# Altium schematic symbol library Resistors.SchLib: 91 symbols
Pins are listed as number, name and electrical type; pins without a type are passive.

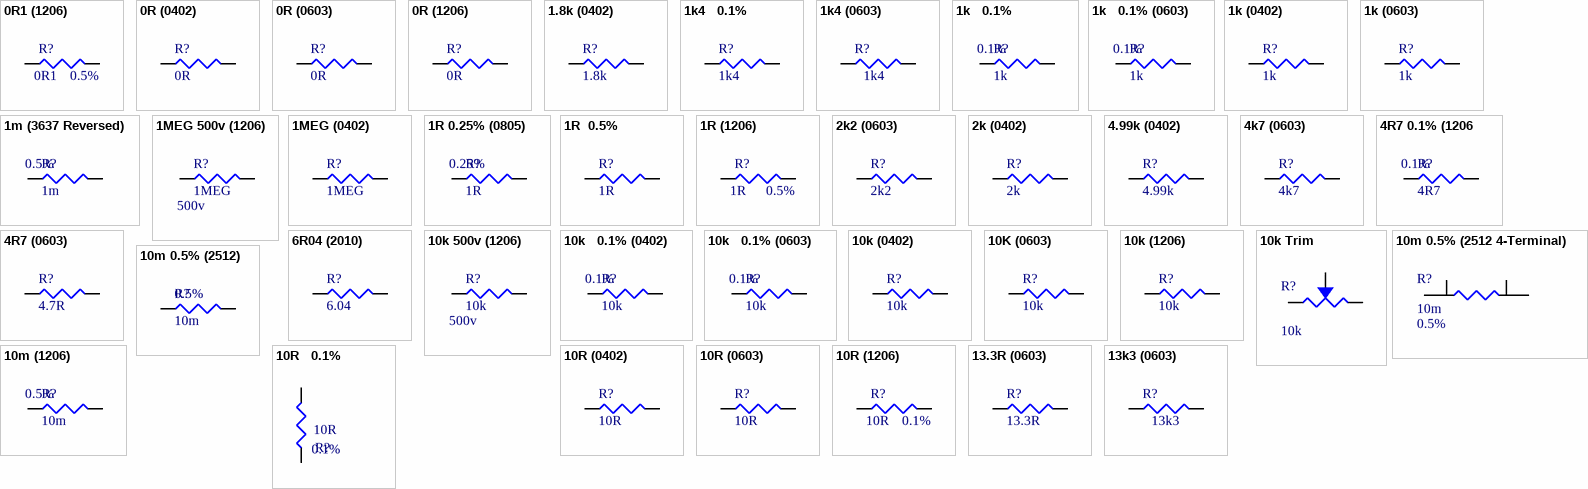
[diagram p0: symbols 0R1 (1206) to 13k3 (0603)]

## 0R1 (1206)
designator R?, comment Tolerance: 0.5%  (hidden comment: 0R1)
100mR Current Sense Resistor; POWER: 0.25w; MFG_PN: WSL1206R1000DEA; MFG: Vishay; Load: NL; Value: 0R1
footprint RES1206R (resistor 1206 reflow soldering)
pins: 1, 2
1 alternate drawing of the same symbol

## 0R (0402)
designator R?, comment 0R
MFG_PN: CRCW04020000Z0ED; MFG: Vishay; Load: NL; Value: 0R
footprint RES0402R (resistor 0402 reflow soldering)
pins: 1, 2
1 alternate drawing of the same symbol

## 0R (0603)
designator R?, comment 0R
MFG_PN: CRCW12060000Z0EA; MFG: Vishay; Load: NL; Value: 0R
footprint RES0603R (resistor 0603 reflow soldering)
pins: 1, 2
1 alternate drawing of the same symbol

## 0R (1206)
designator R?, comment 0R
0R, 1206; MFG_PN: CRCW12060000Z0EA; MFG: Vishay; Load: NL; Value: 0R
footprint RES1206R (resistor 1206 reflow soldering)
pins: 1, 2
1 alternate drawing of the same symbol

## 1.8k (0402)
designator R?, comment 1.8k
Tolerance: 1%; POWER: 63mW; MFG_PN: CRCW04021K80FKED; MFG: Vishay; Load: NL; Value: 1.8k
footprint RES0402R (resistor 0402 reflow soldering)
pins: 1, 2
1 alternate drawing of the same symbol

## 1k4   0.1%
designator R?, comment 1k4
Tolerance: 0.1%; POWER: 0.1W; MFG1_PN: TNPW06031K40BEEA; MFG1: Vishay; Load: NL; Value: 1k4
footprint RES0603R (resistor 0603 reflow soldering)
pins: 1, 2
1 alternate drawing of the same symbol

## 1k4 (0603)
designator R?, comment 1k4
Tolerance: 1%; POWER: 0.1W; MFG_PN: CRCW06031K40FKEA; MFG: Vishay; Load: NL; Value: 1k4
footprint RES0603R (resistor 0603 reflow soldering)
pins: 1, 2
1 alternate drawing of the same symbol

## 1k   0.1%
designator R?, comment Tolerance: 0.1%  (hidden comment: 1k)
POWER: 0.125W; MFG1_PN: TNPW08051K00BEEA; MFG1: Vishay; Load: NL; Value: 1k
footprint RES0603R (resistor 0603 reflow soldering)
pins: 1, 2
1 alternate drawing of the same symbol

## 1k   0.1% (0603)
designator R?, comment Tolerance: 0.1%  (hidden comment: 1k)
POWER: 0.1W; MFG_PN: TNPW06031K00BEEA; MFG: Vishay; Load: NL; TEMP_COEF: 25ppm; Value: 1k
footprint RES0603R (resistor 0603 reflow soldering)
pins: 1, 2
1 alternate drawing of the same symbol

## 1k (0402)
designator R?, comment 1k
Tolerance: 1%; POWER: 63mW; MFG_PN: CRCW04021K00FKED; MFG: Vishay; Load: NL; Value: 1k
footprint RES0402R (resistor 0402 reflow soldering)
pins: 1, 2
1 alternate drawing of the same symbol

## 1k (0603)
designator R?, comment 1k
Tolerance: 1%; POWER: 0.1W; MFG_PN: CRCW06031K00FKEA; MFG: Vishay; Load: NL; Value: 1k
footprint RES0603R (resistor 0603 reflow soldering)
pins: 1, 2
1 alternate drawing of the same symbol

## 1m (3637 Reversed)
designator R?, comment Tolerance: 0.5%  (hidden comment: 1m)
POWER: 3W; MFG_PN: WSL36371L000DEA; MFG: Vishay; Load: NL; Value: 1m
footprint 3637 Reversed
pins: 1, 2, 3, 4
1 alternate drawing of the same symbol

## 1MEG 500v (1206)
designator R?, comment VOLTAGE: 500v  (hidden comment: 1MEG)
Tolerance: 0.5%; POWER: 0.25mW; MFG_PN: HV732BTTD1004D; MFG: KOA SPEER; Load: NL; Value: 1MEG
footprint RES1206R (resistor 1206 reflow soldering)
pins: 1, 2
1 alternate drawing of the same symbol

## 1MEG (0402)
designator R?, comment 1MEG
Tolerance: 1%; POWER: 63mW; MFG_PN: CRCW04021M00FKED; MFG: Vishay; Load: NL; Value: 1MEG
footprint RES0402R (resistor 0402 reflow soldering)
pins: 1, 2
1 alternate drawing of the same symbol

## 1R 0.25% (0805)
designator R?, comment Tolerance: 0.25%  (hidden comment: 1R)
POWER: 100mW; MFG_PN: CRT0805-CY-1R00ELF; MFG: Bourns; Load: NL; Value: 1R
footprint RES0805R (resistor 0805 reflow soldering)
pins: 1, 2
1 alternate drawing of the same symbol

## 1R  0.5%
designator R?, comment 1R
Tolerance: 0.5%; POWER: 0.33W; MFG1_PN: SR732BTTD1R00D; MFG1: KOA Speer; Load: NL; Value: 1R
footprint RES1206R (resistor 1206 reflow soldering)
pins: 1, 2
1 alternate drawing of the same symbol

## 1R (1206)
designator R?, comment Tolerance: 0.5%  (hidden comment: 1R)
1R Current Sense Resistor; POWER: 0.33w; MFG_PN: SR732BTTD1R00D; MFG: KOA; Load: NL; Value: 1R
footprint RES1206R (resistor 1206 reflow soldering)
pins: 1, 2
1 alternate drawing of the same symbol

## 2k2 (0603)
designator R?, comment 2k2
Tolerance: 1%; POWER: 0.1W; MFG_PN: CRCW06032K20FKEA; MFG: Vishay; Load: NL; Value: 2k2
footprint RES0603R (resistor 0603 reflow soldering)
pins: 1, 2
1 alternate drawing of the same symbol

## 2k (0402)
designator R?, comment 2k
Tolerance: 1%; POWER: 63mW; MFG_PN: CRCW04022K00FKED; MFG: Vishay; Load: NL; Value: 2k
footprint RES0402R (resistor 0402 reflow soldering)
pins: 1, 2
1 alternate drawing of the same symbol

## 4.99k (0402)
designator R?, comment 4.99k
Tolerance: 1%; POWER: 63mW; MFG_PN: CRCW04024K99FKED; MFG: Vishay; Load: NL; Value: 4.99k
footprint RES0402R (resistor 0402 reflow soldering)
pins: 1, 2
1 alternate drawing of the same symbol

## 4k7 (0603)
designator R?, comment 4k7
Tolerance: 1%; POWER: 0.1W; MFG_PN: CRCW06034K70FKEA; MFG: Vishay; Load: NL; Value: 4k7
footprint RES0603R (resistor 0603 reflow soldering)
pins: 1, 2
1 alternate drawing of the same symbol

## 4R7 0.1% (1206
designator R?, comment Tolerance: 0.1%  (hidden comment: 4R7)
POWER: 0.1W; MFG_PN: CRT1206-BY-4R70ELF; MFG: Bourns; Load: NL; Value: 4R7
footprint RES1206R (resistor 1206 reflow soldering)
pins: 1, 2
1 alternate drawing of the same symbol

## 4R7 (0603)
designator R?, comment 4.7R
Tolerance: 1%; POWER: 0.1W; MFG_PN: CRCW06034R70FKEA; MFG: Vishay; Load: NL; Value: 4.7R
footprint RES0603R (resistor 0603 reflow soldering)
pins: 1, 2
1 alternate drawing of the same symbol

## 6R04 (2010)
designator R?, comment 6.04
Tolerance: 1%; POWER: 0.750mW; MFG_PN: SR732HTTE6R04F; MFG: KOA Speer; Load: NL; Value: 6.04
footprint RES2010R (resistor 2010 reflow soldering)
pins: 1, 2
1 alternate drawing of the same symbol

## 10k 500v (1206)
designator R?, comment VOLTAGE: 500v  (hidden comment: 10k)
Tolerance: 5%; POWER: 0.66mW; MFG_PN: ERJ-P08J103V; MFG: Panasonic; Load: NL; Value: 10k
footprint RES1206R (resistor 1206 reflow soldering)
pins: 1, 2
1 alternate drawing of the same symbol

## 10k   0.1% (0402)
designator R?, comment Tolerance: 0.1%  (hidden comment: 10k)
POWER: 63mW; MFG_PN: TNPW040210K0BEED; MFG: Vishay; Load: NL; Value: 10k
footprint RES0402R (resistor 0402 reflow soldering)
pins: 1, 2
1 alternate drawing of the same symbol

## 10k   0.1% (0603)
designator R?, comment Tolerance: 0.1%  (hidden comment: 10k)
POWER: 0.1W; MFG_PN: TNPW060310K0BEEA; MFG: Vishay; Load: NL; Value: 10k
footprint RES0603R (resistor 0603 reflow soldering)
pins: 1, 2
1 alternate drawing of the same symbol

## 10k (0402)
designator R?, comment 10k
Tolerance: 1%; POWER: 63mW; MFG_PN: CRCW040210K0FKED; MFG: Vishay; Load: NL; Value: 10k
footprint RES0402R (resistor 0402 reflow soldering)
pins: 1, 2
1 alternate drawing of the same symbol

## 10K (0603)
designator R?, comment 10k
Tolerance: 1%; POWER: 0.1W; MFG_PN: CRCW060310K0FKEA; MFG: Vishay; Load: NL; Value: 10k
footprint RES0603R (resistor 0603 reflow soldering)
pins: 1, 2
1 alternate drawing of the same symbol

## 10k (1206)
designator R?, comment 10k
Tolerance: 1%; POWER: 0.25W; MFG_PN: CRCW120610K0FKEA; MFG: Vishay; Load: NL; Value: 10k
footprint RES1206R (resistor 1206 reflow soldering)
pins: 1, 2
1 alternate drawing of the same symbol

## 10k Trim
designator R?, comment value 10k  (hidden comment: Bourns)
MFG_PN: 3223W-1-103; LOAD: NL; MFG: Bourns
footprint Trimmer Resistor 3223W (SMD Trimmer Resistor)
pins: 1, 2, 3

## 10m 0.5% (2512 4-Terminal)
designator R?, comment 10m  TOLERANCE: 0.5%
10mR Current Sense - 4-Terminal; MFG_PN: WSK2512R0100DEA; MFG: VISHAY; POWER: 1W; LOAD: NL; VALUE: 10m
footprint 2512 4 Terminal
pins: 1, 2, 3, 4

## 10m 0.5% (2512)
designator R?, comment Tolerance: 0.5%  (hidden comment: 10m)
POWER: 1W; MFG_PN: WSL2512R0100DEA; MFG: VISHAY; Load: NL; Value: 10m
footprint RES2512R (resistor 2512 reflow soldering)
pins: 1, 2
1 alternate drawing of the same symbol

## 10m (1206)
designator R?, comment Tolerance: 0.5%  (hidden comment: 10m)
POWER: 0.25W; MFG_PN: WSL1206R0100DEA; MFG: VISHAY; Load: NL; Value: 10m
footprint WSL 1206
pins: 1, 2
1 alternate drawing of the same symbol

## 10R   0.1%
designator R?, comment Tolerance: 0.1%  (hidden comment: 10R)
POWER: 0.1W; MFG1_PN: TNPW060310R0BEEA; MFG1: Vishay; Load: NL; Value: 10R
footprint RES0603R (resistor 0603 reflow soldering)
pins: 1, 2
1 alternate drawing of the same symbol

## 10R (0402)
designator R?, comment 10R
Tolerance: 1%; POWER: 63mW; MFG_PN: CRCW040210R0FKED; MFG: Vishay; Load: NL; Value: 10R
footprint RES0402R (resistor 0402 reflow soldering)
pins: 1, 2
1 alternate drawing of the same symbol

## 10R (0603)
designator R?, comment 10R
Tolerance: 1%; POWER: 0.1W; MFG_PN: CRCW060310R0FKEA; MFG: Vishay; Load: NL; Value: 10R
footprint RES0603R (resistor 0603 reflow soldering)
pins: 1, 2
1 alternate drawing of the same symbol

## 10R (1206)
designator R?, comment Tolerance: 0.1%  (hidden comment: 10R)
10R Current Sense Resistor; POWER: 0.33w; MFG_PN: TNPW120610R0BEEA; MFG: VISHAY; Load: NL; TEMP_COEFF: 25ppm; Value: 10R
footprint RES1206R (resistor 1206 reflow soldering)
pins: 1, 2
1 alternate drawing of the same symbol

## 13.3R (0603)
designator R?, comment 13.3R
Tolerance: 1%; POWER: 0.1W; MFG_PN: CRCW060313R3FKEA; MFG: Vishay; Load: NL; Value: 13.3R
footprint RES0603R (resistor 0603 reflow soldering)
pins: 1, 2
1 alternate drawing of the same symbol

## 13k3 (0603)
designator R?, comment 13k3
Tolerance: 1%; POWER: 0.1W; MFG_PN: CRCW060313K3FKEA; MFG: Vishay; Load: NL; Value: 13k3
footprint RES0603R (resistor 0603 reflow soldering)
pins: 1, 2
1 alternate drawing of the same symbol

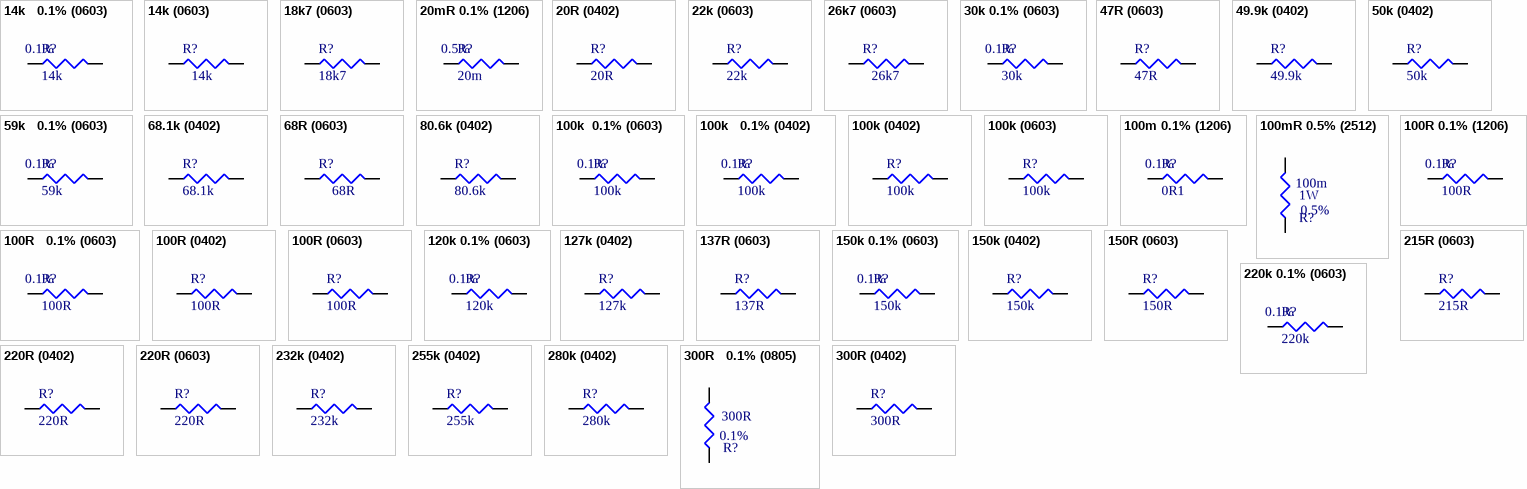
[diagram p1: symbols 14k   0.1% (0603) to 300R (0402)]

## 14k   0.1% (0603)
designator R?, comment Tolerance: 0.1%  (hidden comment: 14k)
POWER: 0.1W; MFG_PN: TNPW060314K0BEEA; MFG: Vishay; Load: NL; TEMP_COEF: 25ppm; Value: 14k
footprint RES0603R (resistor 0603 reflow soldering)
pins: 1, 2
1 alternate drawing of the same symbol

## 14k (0603)
designator R?, comment 14k
Tolerance: 1%; POWER: 0.25W; MFG_PN: CRCW060314K0FKEAHP; MFG: Vishay; Load: NL; Value: 14k
footprint RES0603R (resistor 0603 reflow soldering)
pins: 1, 2
1 alternate drawing of the same symbol

## 18k7 (0603)
designator R?, comment 18k7
Tolerance: 1%; POWER: 0.1W; MFG_PN: CRCW060318K7FKEA; MFG: Vishay; Load: NL; Value: 18k7
footprint RES0603R (resistor 0603 reflow soldering)
pins: 1, 2
1 alternate drawing of the same symbol

## 20mR 0.1% (1206)
designator R?, comment Tolerance: 0.5%  (hidden comment: 20m)
POWER: 0.25W; MFG_PN: WSL1206R0200DBA; MFG: Vishay; Load: NL; Value: 20m
footprint RES1206R (resistor 1206 reflow soldering)
pins: 1, 2
1 alternate drawing of the same symbol

## 20R (0402)
designator R?, comment 20R
Tolerance: 1%; POWER: 63mW; MFG_PN: CRCW040220R0FKED; MFG: Vishay; Load: NL; Value: 20R
footprint RES0402R (resistor 0402 reflow soldering)
pins: 1, 2
1 alternate drawing of the same symbol

## 22k (0603)
designator R?, comment 22k
Tolerance: 1%; POWER: 0.1W; MFG_PN: CRCW060322K0FKEA; MFG: Vishay; Load: NL; Value: 22k
footprint RES0603R (resistor 0603 reflow soldering)
pins: 1, 2
1 alternate drawing of the same symbol

## 26k7 (0603)
designator R?, comment 26k7
Tolerance: 1%; POWER: 0.1W; MFG_PN: CRCW060326K7FKEA; MFG: Vishay; Load: NL; Value: 26k7
footprint RES0603R (resistor 0603 reflow soldering)
pins: 1, 2
1 alternate drawing of the same symbol

## 30k 0.1% (0603)
designator R?, comment Tolerance: 0.1%  (hidden comment: 30k)
POWER: 0.1W; MFG1_PN: TNPW060330K0BEEA; MFG1: Vishay; Load: NL; Value: 30k
footprint RES0603R (resistor 0603 reflow soldering)
pins: 1, 2
1 alternate drawing of the same symbol

## 47R (0603)
designator R?, comment 47R
Tolerance: 1%; POWER: 0.1W; MFG_PN: CRCW060347R0FKEA; MFG: Vishay; Load: NL; Value: 47R
footprint RES0603R (resistor 0603 reflow soldering)
pins: 1, 2
1 alternate drawing of the same symbol

## 49.9k (0402)
designator R?, comment 49.9k
Tolerance: 1%; POWER: 63mW; MFG_PN: CRCW040249K9FKED; MFG: Vishay; Load: NL; Value: 49.9k
footprint RES0402R (resistor 0402 reflow soldering)
pins: 1, 2
1 alternate drawing of the same symbol

## 50k (0402)
designator R?, comment 50k
Tolerance: 1%; POWER: 63mW; MFG_PN: CRCW040250K0FKED; MFG: Vishay; Load: NL; Value: 50k
footprint RES0402R (resistor 0402 reflow soldering)
pins: 1, 2
1 alternate drawing of the same symbol

## 59k   0.1% (0603)
designator R?, comment Tolerance: 0.1%  (hidden comment: 59k)
POWER: 0.1W; MFG_PN: TNPW060359K0BEEA; MFG: Vishay; Load: NL; Value: 59k
footprint RES0603R (resistor 0603 reflow soldering)
pins: 1, 2
1 alternate drawing of the same symbol

## 68.1k (0402)
designator R?, comment 68.1k
Tolerance: 1%; POWER: 63mW; MFG_PN: CRCW0402232KFKED; MFG: Vishay; Load: NL; Value: 68.1k
footprint RES0402R (resistor 0402 reflow soldering)
pins: 1, 2
1 alternate drawing of the same symbol

## 68R (0603)
designator R?, comment 68R
Tolerance: 1%; POWER: 0.1W; MFG_PN: CRCW060368R0FKEB; MFG: Vishay; Load: NL; Value: 68R
footprint RES0603R (resistor 0603 reflow soldering)
pins: 1, 2
1 alternate drawing of the same symbol

## 80.6k (0402)
designator R?, comment 80.6k
Tolerance: 1%; POWER: 63mW; MFG_PN: CRCW040280K6FKED; MFG: Vishay; Load: NL; Value: 80.6k
footprint RES0402R (resistor 0402 reflow soldering)
pins: 1, 2
1 alternate drawing of the same symbol

## 100k  0.1% (0603)
designator R?, comment Tolerance: 0.1%  (hidden comment: 100k)
POWER: 0.1W; MFG_PN: TNPW0603100KBEEA; MFG: Vishay; Load: NL; Value: 100k
footprint RES0603R (resistor 0603 reflow soldering)
pins: 1, 2
1 alternate drawing of the same symbol

## 100k   0.1% (0402)
designator R?, comment Tolerance: 0.1%  (hidden comment: 100k)
POWER: 63mW; MFG_PN: TNPW0402100KBEED; MFG: Vishay; Load: NL; Value: 100k
footprint RES0402R (resistor 0402 reflow soldering)
pins: 1, 2
1 alternate drawing of the same symbol

## 100k (0402)
designator R?, comment 100k
Tolerance: 1%; POWER: 63mW; MFG_PN: CRCW0402100KFKED; MFG: Vishay; Load: NL; Value: 100k
footprint RES0402R (resistor 0402 reflow soldering)
pins: 1, 2
1 alternate drawing of the same symbol

## 100k (0603)
designator R?, comment 100k
Tolerance: 1%; POWER: 0.1W; MFG1_PN: CRCW0603100KFKEA; MFG1: Vishay; Load: NL; Value: 100k
footprint RES0603R (resistor 0603 reflow soldering)
pins: 1, 2
1 alternate drawing of the same symbol

## 100m 0.1% (1206)
designator R?, comment Tolerance: 0.1%  (hidden comment: 0R1)
POWER: 1W; MFG_PN: WSL1206R1000DEA; MFG: Vishay; Load: NL; Value: 0R1
footprint RES1206R (resistor 1206 reflow soldering)
pins: 1, 2
1 alternate drawing of the same symbol

## 100mR 0.5% (2512)
designator R?, comment POWER: 1W  Tolerance: 0.5%  (hidden comment: 100m)
MFG_PN: WSL2512R1000DEA; MFG: Vishay; Load: NL; Value: 100m
footprint RES2512R (resistor 2512 reflow soldering)
pins: 1, 2
1 alternate drawing of the same symbol

## 100R 0.1% (1206)
designator R?, comment Tolerance: 0.1%  (hidden comment: 100R)
POWER: 1W; MFG_PN: PHP01206E1000BST5; MFG: Vishay; Load: NL; Value: 100R
footprint RES1206R (resistor 1206 reflow soldering)
pins: 1, 2
1 alternate drawing of the same symbol

## 100R   0.1% (0603)
designator R?, comment Tolerance: 0.1%  (hidden comment: 100R)
POWER: 0.1W; MFG_PN: TNPW0603100RBEEA; MFG: Vishay; Load: NL; TEMP_COEF: 20ppm; Value: 100R
footprint RES0603R (resistor 0603 reflow soldering)
pins: 1, 2
1 alternate drawing of the same symbol

## 100R (0402)
designator R?, comment 100R
Tolerance: 1%; POWER: 63mW; MFG_PN: CRCW0402100RFKED; MFG: Vishay; Load: NL; Value: 100R
footprint RES0402R (resistor 0402 reflow soldering)
pins: 1, 2
1 alternate drawing of the same symbol

## 100R (0603)
designator R?, comment 100R
Tolerance: 1%; POWER: 0.1W; MFG_PN: CRCW0603100RFKEA; MFG: Vishay; Load: NL; Value: 100R
footprint RES0603R (resistor 0603 reflow soldering)
pins: 1, 2
1 alternate drawing of the same symbol

## 120k 0.1% (0603)
designator R?, comment Tolerance: 0.1%  (hidden comment: 120k)
POWER: 100mW; MFG_PN: TNPW0603120KBEEA; MFG: Vishay; Load: NL; Value: 120k
footprint RES0603R (resistor 0603 reflow soldering)
pins: 1, 2
1 alternate drawing of the same symbol

## 127k (0402)
designator R?, comment 127k
Tolerance: 1%; POWER: 63mW; MFG_PN: CRCW0402127KFKED; MFG: Vishay; Load: NL; Value: 127k
footprint RES0402R (resistor 0402 reflow soldering)
pins: 1, 2
1 alternate drawing of the same symbol

## 137R (0603)
designator R?, comment 137R
Tolerance: 1%; POWER: 0.1W; MFG_PN: CRCW0603137RFKEA; MFG: Vishay; Load: NL; Value: 137R
footprint RES0603R (resistor 0603 reflow soldering)
pins: 1, 2
1 alternate drawing of the same symbol

## 150k 0.1% (0603)
designator R?, comment Tolerance: 0.1%  (hidden comment: 150k)
POWER: 100mW; MFG_PN: TNPW0603150KBEEA; MFG: Vishay; Load: NL; Value: 150k
footprint RES0603R (resistor 0603 reflow soldering)
pins: 1, 2
1 alternate drawing of the same symbol

## 150k (0402)
designator R?, comment 150k
Tolerance: 1%; POWER: 63mW; MFG_PN: CRCW0402150KFKED; MFG: Vishay; Load: NL; Value: 150k
footprint RES0402R (resistor 0402 reflow soldering)
pins: 1, 2
1 alternate drawing of the same symbol

## 150R (0603)
designator R?, comment 150R
Tolerance: 1%; POWER: 0.1W; MFG_PN: CRCW0603150RFKEA; MFG: Vishay; Load: NL; Value: 150R
footprint RES0603R (resistor 0603 reflow soldering)
pins: 1, 2
1 alternate drawing of the same symbol

## 215R (0603)
designator R?, comment 215R
Tolerance: 1%; POWER: 0.1W; MFG_PN: CRCW0603215RFKEA; MFG: Vishay; Load: NL; Value: 215R
footprint RES0603R (resistor 0603 reflow soldering)
pins: 1, 2
1 alternate drawing of the same symbol

## 220k 0.1% (0603)
designator R?, comment Tolerance: 0.1%  (hidden comment: 220k)
POWER: 0.1W; MFG1_PN: TNPW0603220KBEEA; MFG1: Vishay; Load: NL; Value: 220k
footprint RES0603R (resistor 0603 reflow soldering)
pins: 1, 2
1 alternate drawing of the same symbol

## 220R (0402)
designator R?, comment 220R
Tolerance: 1%; POWER: 63mW; MFG_PN: CRCW0402220RFKED; MFG: Vishay; Load: NL; Value: 220R
footprint RES0402R (resistor 0402 reflow soldering)
pins: 1, 2
1 alternate drawing of the same symbol

## 220R (0603)
designator R?, comment 220R
Tolerance: 1%; POWER: 0.1W; MFG_PN: CRCW0603220RFKEB; MFG: Vishay; Load: NL; Value: 220R
footprint RES0603R (resistor 0603 reflow soldering)
pins: 1, 2
1 alternate drawing of the same symbol

## 232k (0402)
designator R?, comment 232k
Tolerance: 1%; POWER: 63mW; MFG_PN: CRCW0402232KFKED; MFG: Vishay; Load: NL; Value: 232k
footprint RES0402R (resistor 0402 reflow soldering)
pins: 1, 2
1 alternate drawing of the same symbol

## 255k (0402)
designator R?, comment 255k
Tolerance: 1%; POWER: 63mW; MFG_PN: CRCW0402255KFKED; MFG: Vishay; Load: NL; Value: 255k
footprint RES0402R (resistor 0402 reflow soldering)
pins: 1, 2
1 alternate drawing of the same symbol

## 280k (0402)
designator R?, comment 280k
Tolerance: 1%; POWER: 63mW; MFG_PN: CRCW0402280KFKED; MFG: Vishay; Load: NL; Value: 280k
footprint RES0402R (resistor 0402 reflow soldering)
pins: 1, 2
1 alternate drawing of the same symbol

## 300R   0.1% (0805)
designator R?, comment Tolerance: 0.1%  (hidden comment: 300R)
POWER: 0.125W; MFG_PN: TNPW0805300RBEEA; MFG: Vishay; Load: NL; Value: 300R
footprint RES0805R (resistor 0805 reflow soldering)
pins: 1, 2
1 alternate drawing of the same symbol

## 300R (0402)
designator R?, comment 300R
Tolerance: 1%; POWER: 63mW; MFG_PN: CRCW0402300RFKED; MFG: Vishay; Load: NL; Value: 300R
footprint RES0402R (resistor 0402 reflow soldering)
pins: 1, 2
1 alternate drawing of the same symbol

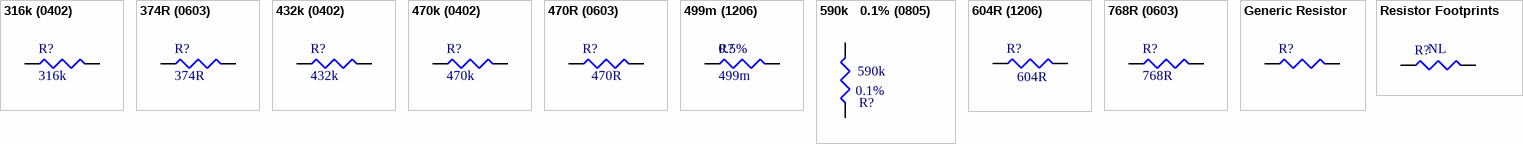
[diagram p2: symbols 316k (0402) to Resistor Footprints]

## 316k (0402)
designator R?, comment 316k
Tolerance: 1%; POWER: 63mW; MFG_PN: CRCW0402316KFKED; MFG: Vishay; Load: NL; Value: 316k
footprint RES0402R (resistor 0402 reflow soldering)
pins: 1, 2
1 alternate drawing of the same symbol

## 374R (0603)
designator R?, comment 374R
Tolerance: 1%; POWER: 0.1W; MFG_PN: CRCW0603374RFKEA; MFG: Vishay; Load: NL; Value: 374R
footprint RES0603R (resistor 0603 reflow soldering)
pins: 1, 2
1 alternate drawing of the same symbol

## 432k (0402)
designator R?, comment 432k
Tolerance: 1%; POWER: 63mW; MFG_PN: CRCW0402432KFKED; MFG: Vishay; Load: NL; Value: 432k
footprint RES0402R (resistor 0402 reflow soldering)
pins: 1, 2
1 alternate drawing of the same symbol

## 470k (0402)
designator R?, comment 470k
Tolerance: 1%; POWER: 63mW; MFG_PN: CRCW0402470KFKED; MFG: Vishay; Load: NL; Value: 470k
footprint RES0402R (resistor 0402 reflow soldering)
pins: 1, 2
1 alternate drawing of the same symbol

## 470R (0603)
designator R?, comment 470R
Tolerance: 1%; POWER: 0.1W; MFG_PN: CRCW0603470RFKEA; MFG: Vishay; Load: NL; Value: 470R
footprint RES0603R (resistor 0603 reflow soldering)
pins: 1, 2
1 alternate drawing of the same symbol

## 499m (1206)
designator R?, comment Tolerance: 0.5%  (hidden comment: 499m)
POWER: 330mW; MFG_PN: SR732BTTDR499D; MFG: KOA_SPEER; Load: NL; Value: 499m
footprint RES1206R (resistor 1206 reflow soldering)
pins: 1, 2
1 alternate drawing of the same symbol

## 590k   0.1% (0805)
designator R?, comment Tolerance: 0.1%  (hidden comment: 590k)
POWER: 0.125W; MFG_PN: TNPW0805590KBEEA; MFG: Vishay; Load: NL; Value: 590k
footprint RES0805R (resistor 0805 reflow soldering)
pins: 1, 2
1 alternate drawing of the same symbol

## 604R (1206)
designator R?, comment 604R
POWER: 0.5W; MFG_PN: CRCW1206604RFKEAHP; MFG: VISHAY; Load: NL; Tolerance: 1%; Value: 604R
footprint RES1206R (resistor 1206 reflow soldering)
pins: 1, 2
1 alternate drawing of the same symbol

## 768R (0603)
designator R?, comment 768R
Tolerance: 1%; POWER: 0.1W; MFG_PN: CRCW0603768RFKEA; MFG: Vishay; Load: NL; Value: 768R
footprint RES0603R (resistor 0603 reflow soldering)
pins: 1, 2
1 alternate drawing of the same symbol

## Generic Resistor
designator R?
MFG: Vishay; Load: NL
pins: 1, 2
1 alternate drawing of the same symbol

## Resistor Footprints
designator R?, comment Load: NL  (hidden comment: VAL)
Resistor Footprints
footprint RES0402R (resistor 0402 reflow soldering)
footprint RES0805W (resistor 0805 wave soldering)
footprint RES1206W (resistor 1206 wave soldering)
footprint RES2010W (resistor 2010 wave soldering)
footprint RES2512W (resistor 2512 wave soldering)
footprint RES0603W (resistor 0603 wave soldering)
pins: 1, 2
1 alternate drawing of the same symbol